# Altium footprint library 618 0xx 231 221.PcbLib: 4 footprints
Each footprint in its own frame and in the unit in brackets; x right, y up, seen from the top. Pads: shape width x height; smd on the part's side, far side on the other; paste and mask are expansions set on the pad; w line width, h text height; cw(c..) or ccw(c..) is an arc to the next point about the centre after c.
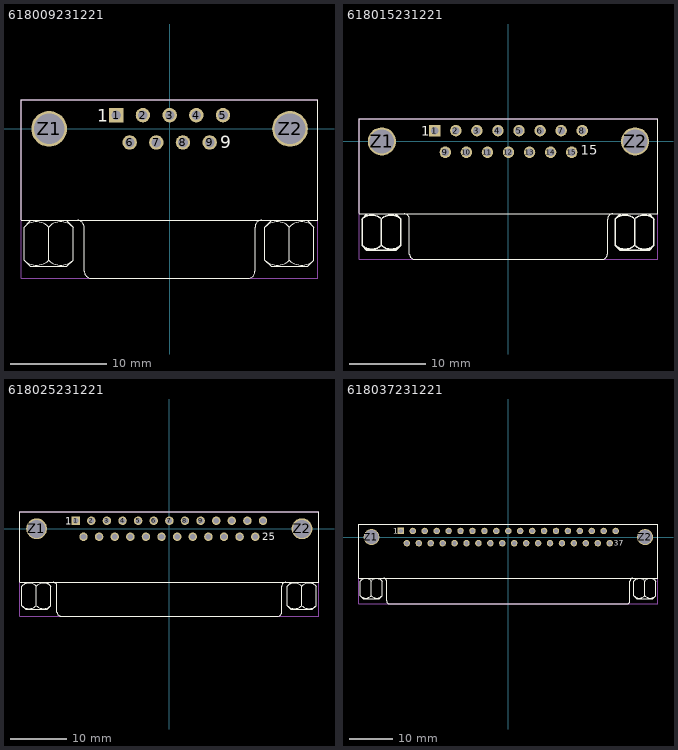
[diagram p0: the footprints below, top view; thin cyan lines are the x and y axes]

## 618009231221 [mm] "9 pins, right angled, 8.08mm, with hex screw"
height 12.5
pads (11):
  rect 1.5x1.5 hole 1: 1(-5.54,1.42)
  round 1.5 hole 1: 2(-2.77,1.42) 3(0,1.42) 4(2.77,1.42) 5(5.54,1.42) 6(-4.155,-1.42) 7(-1.385,-1.42) 8(1.385,-1.42) 9(4.155,-1.42)
  round 3.7 hole 3.2: Z1(-12.5,0) Z2(12.5,0)
Top Overlay:
  lines w0.127: -15.4,-9.5 15.4,-9.5 ; -15.4,-9.42 -15.4,3 15.4,3 15.4,-9.42 ; -15.106,-10.197 cw(c-13.834,-11.469) -12.562,-10.197 ; -15.104,-13.655 -14.469,-14.29 -10.659,-14.29 -10.024,-13.655 -10.024,-10.199 -10.659,-9.564 ; -15.104,-12.588 -15.104,-12.376 ; -14.469,-9.564 -15.104,-10.199 -15.104,-13.64 ccw(c-13.832,-12.368) -12.56,-13.64 ; -12.569,-13.64 ccw(c-11.296,-12.368) -10.024,-13.64 ; -12.566,-10.197 cw(c-11.294,-11.469) -10.022,-10.197 ; -12.564,-13.64 -12.564,-10.199 ; -9.56,-9.505 cw(c-9.56,-10.2) -8.865,-10.2 -8.865,-14.8 ; -8.86,-14.805 ccw(c-8.165,-14.805) -8.165,-15.5 8.165,-15.5 ccw(c8.165,-14.805) 8.86,-14.805 ; 8.865,-14.8 8.865,-10.2 cw(c9.56,-10.2) 9.56,-9.505 ; 9.894,-10.197 cw(c11.166,-11.469) 12.438,-10.197 ; 9.896,-13.655 10.531,-14.29 14.341,-14.29 14.976,-13.655 14.976,-10.199 14.341,-9.564 ; 9.896,-12.588 9.896,-12.376 ; 10.531,-9.564 9.896,-10.199 9.896,-13.64 ccw(c11.168,-12.368) 12.44,-13.64 ; 12.431,-13.64 ccw(c13.704,-12.368) 14.976,-13.64 ; 12.434,-10.197 cw(c13.706,-11.469) 14.978,-10.197 ; 12.436,-13.64 12.436,-10.199
  text "9" at 5.25,-2 h1.27
  text "1" at -7.5,0.75 h1.27
Mechanical 13:
  lines w0.127: -15.4,-15.5 15.4,-15.5 15.4,3 -15.4,3 -15.4,-15.5
3D body: height 12.51, standoff -3.39, extent -15.4,-15.5 15.41,3

## 618015231221 [mm] "15 pins, right angled, 8.08mm, with hex screw"
height 12.5
pads (17):
  rect 1.5x1.5 hole 1: 1(-9.695,1.42)
  round 1.5 hole 1: 2(-6.925,1.42) 3(-4.155,1.42) 4(-1.385,1.42) 5(1.385,1.42) 6(4.155,1.42) 7(6.925,1.42) 8(9.695,1.42) 9(-8.31,-1.42) 10(-5.54,-1.42) 11(-2.77,-1.42) 12(0,-1.42) 13(2.77,-1.42) 14(5.54,-1.42) 15(8.31,-1.42)
  round 3.7 hole 3.2: Z1(-16.65,0) Z2(16.65,0)
Top Overlay:
  lines w0.127: -19.6,-9.5 19.6,-9.5 ; -19.6,-9.42 -19.6,3 19.6,3 19.6,-9.42 ; -13.715,-9.505 cw(c-13.715,-10.2) -13.02,-10.2 -13.02,-14.8 ; -13.015,-14.805 ccw(c-12.32,-14.805) -12.32,-15.5 12.32,-15.5 ccw(c12.32,-14.805) 13.015,-14.805 ; 13.02,-14.8 13.02,-10.2 cw(c13.715,-10.2) 13.715,-9.505
  lines w0.2: -19.254,-13.655 -18.619,-14.29 -14.809,-14.29 -14.174,-13.655 -14.174,-10.199 -14.809,-9.564 ; -19.254,-13.64 -19.254,-10.199 -18.619,-9.564 ; -19.254,-12.588 -19.254,-12.376 ; -16.714,-13.64 -16.714,-10.199 ; 14.046,-13.655 14.681,-14.29 18.491,-14.29 19.126,-13.655 19.126,-10.199 18.491,-9.564 ; 14.046,-13.64 14.046,-10.199 14.681,-9.564 ; 14.046,-12.588 14.046,-12.376 ; 16.586,-13.64 16.586,-10.199
  lines w0.203: -19.256,-10.197 cw(c-17.984,-11.469) -16.712,-10.197 ; -19.254,-13.64 ccw(c-17.982,-12.368) -16.71,-13.64 ; -16.719,-13.64 ccw(c-15.446,-12.368) -14.174,-13.64 ; -16.716,-10.197 cw(c-15.444,-11.469) -14.172,-10.197 ; 14.044,-10.197 cw(c15.316,-11.469) 16.588,-10.197 ; 14.046,-13.64 ccw(c15.318,-12.368) 16.59,-13.64 ; 16.581,-13.64 ccw(c17.854,-12.368) 19.126,-13.64 ; 16.584,-10.197 cw(c17.856,-11.469) 19.128,-10.197
  text "15" at 9.5,-1.75 h1.27
  text "1" at -11.5,0.75 h1.27
Mechanical 13:
  lines w0.127: -19.6,-15.5 -19.6,3 19.6,3 19.6,-15.5 -19.6,-15.5
3D body: height 12.51, standoff -3.39, extent -19.54,-15.5 19.6,3

## 618025231221 [mm] "25 pins, right angled, 8.08mm, with hex screw"
height 12.5
pads (27):
  rect 1.5x1.5 hole 1: 1(-16.62,1.42)
  round 1.5 hole 1: 2(-13.85,1.42) 3(-11.08,1.42) 4(-8.31,1.42) 5(-5.54,1.42) 6(-2.77,1.42) 7(0,1.42) 8(2.77,1.42) 9(5.54,1.42) 10(8.31,1.42) 11(11.08,1.42) 12(13.85,1.42) 13(16.62,1.42) 14(-15.235,-1.42) 15(-12.465,-1.42) 16(-9.695,-1.42) 17(-6.925,-1.42) 18(-4.155,-1.42) 19(-1.385,-1.42) 20(1.385,-1.42) 21(4.155,-1.42) 22(6.925,-1.42) 23(9.695,-1.42) 24(12.465,-1.42) 25(15.235,-1.42)
  round 3.7 hole 3.2: Z1(-23.55,0) Z2(23.55,0)
Top Overlay:
  lines w0.127: -26.55,-9.5 26.55,-9.5 ; -26.55,-9.42 -26.55,3 26.55,3 26.55,-9.42 ; -20.64,-9.505 cw(c-20.64,-10.2) -19.945,-10.2 -19.945,-14.8 ; -19.94,-14.805 ccw(c-19.245,-14.805) -19.245,-15.5 19.245,-15.5 ccw(c19.245,-14.805) 19.94,-14.805 ; 19.945,-14.8 19.945,-10.2 cw(c20.64,-10.2) 20.64,-9.505
  lines w0.2: -26.154,-13.655 -25.519,-14.29 -21.709,-14.29 -21.074,-13.655 -21.074,-10.199 -21.709,-9.564 ; -26.154,-13.64 -26.154,-10.199 -25.519,-9.564 ; -26.154,-12.588 -26.154,-12.376 ; -23.614,-13.64 -23.614,-10.199 ; 20.946,-13.655 21.581,-14.29 25.391,-14.29 26.026,-13.655 26.026,-10.199 25.391,-9.564 ; 20.946,-13.64 20.946,-10.199 21.581,-9.564 ; 20.946,-12.588 20.946,-12.376 ; 23.486,-13.64 23.486,-10.199
  lines w0.203: -26.156,-10.197 cw(c-24.884,-11.469) -23.612,-10.197 ; -26.154,-13.64 ccw(c-24.882,-12.368) -23.61,-13.64 ; -23.619,-13.64 ccw(c-22.346,-12.368) -21.074,-13.64 ; -23.616,-10.197 cw(c-22.344,-11.469) -21.072,-10.197 ; 20.944,-10.197 cw(c22.216,-11.469) 23.488,-10.197 ; 20.946,-13.64 ccw(c22.218,-12.368) 23.49,-13.64 ; 23.481,-13.64 ccw(c24.754,-12.368) 26.026,-13.64 ; 23.484,-10.197 cw(c24.756,-11.469) 26.028,-10.197
  text "1" at -18.5,0.75 h1.27
  text "25" at 16.5,-2 h1.27
Mechanical 13:
  lines w0.127: -26.55,-15.5 -26.55,3 26.55,3 26.55,-15.5 -26.55,-15.5
3D body: height 12.51, standoff -3.39, extent -26.49,-15.5 26.55,3

## 618037231221 [mm] "37 pins, right angled, 8.08mm, with hex screw"
height 12.5
pads (39):
  rect 1.5x1.5 hole 1: 1(-24.93,1.42)
  round 1.5 hole 1: 2(-22.16,1.42) 3(-19.39,1.42) 4(-16.62,1.42) 5(-13.85,1.42) 6(-11.08,1.42) 7(-8.31,1.42) 8(-5.54,1.42) 9(-2.77,1.42) 10(0,1.42) 11(2.77,1.42) 12(5.54,1.42) 13(8.31,1.42) 14(11.08,1.42) 15(13.85,1.42) 16(16.62,1.42) 17(19.39,1.42) 18(22.16,1.42) 19(24.93,1.42) 20(-23.545,-1.42) 21(-20.775,-1.42) 22(-18.005,-1.42) 23(-15.235,-1.42) 24(-12.465,-1.42) 25(-9.695,-1.42) 26(-6.925,-1.42) 27(-4.155,-1.42) 28(-1.385,-1.42) 29(1.385,-1.42) 30(4.155,-1.42) 31(6.925,-1.42) 32(9.695,-1.42) 33(12.465,-1.42) 34(15.235,-1.42) 35(18.005,-1.42) 36(20.775,-1.42) 37(23.545,-1.42)
  round 3.7 hole 3.2: Z1(-31.75,0) Z2(31.75,0)
Top Overlay:
  lines w0.127: -28.95,-9.505 cw(c-28.95,-10.2) -28.255,-10.2 -28.255,-14.8 ; -28.25,-14.805 ccw(c-27.555,-14.805) -27.555,-15.5 27.555,-15.5 ccw(c27.555,-14.805) 28.25,-14.805 ; 28.255,-14.8 28.255,-10.2 cw(c28.95,-10.2) 28.95,-9.505 ; 34.7,-9.5 -34.7,-9.5 -34.7,3 34.7,3 34.7,-9.42
  lines w0.2: -34.354,-13.655 -33.719,-14.29 -29.909,-14.29 -29.274,-13.655 -29.274,-10.199 -29.909,-9.564 ; -34.354,-13.64 -34.354,-10.199 -33.719,-9.564 ; -34.354,-12.588 -34.354,-12.376 ; -31.814,-13.64 -31.814,-10.199 ; 29.146,-13.655 29.781,-14.29 33.591,-14.29 34.226,-13.655 34.226,-10.199 33.591,-9.564 ; 29.146,-13.64 29.146,-10.199 29.781,-9.564 ; 29.146,-12.588 29.146,-12.376 ; 31.686,-13.64 31.686,-10.199
  lines w0.203: -34.356,-10.197 cw(c-33.084,-11.469) -31.812,-10.197 ; -34.354,-13.64 ccw(c-33.082,-12.368) -31.81,-13.64 ; -31.819,-13.64 ccw(c-30.546,-12.368) -29.274,-13.64 ; -31.816,-10.197 cw(c-30.544,-11.469) -29.272,-10.197 ; 29.144,-10.197 cw(c30.416,-11.469) 31.688,-10.197 ; 29.146,-13.64 ccw(c30.418,-12.368) 31.69,-13.64 ; 31.681,-13.64 ccw(c32.954,-12.368) 34.226,-13.64 ; 31.684,-10.197 cw(c32.956,-11.469) 34.228,-10.197
  text "37" at 24.5,-2 h1.27
  text "1" at -26.75,0.75 h1.27
Mechanical 13:
  lines w0.127: -34.7,-15.5 -34.7,3 34.7,3 34.7,-15.5 -34.7,-15.5
3D body: height 12.51, standoff -3.39, extent -34.62,-15.5 34.7,3